# EAGLE library part ADXL345 (library aerial)
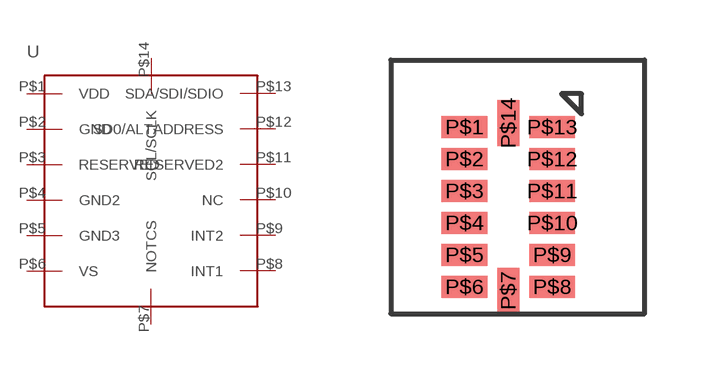
[diagram p1: symbol with the pads of QFN-ADXL345; footprint QFN-ADXL345]

Designator prefix U

## ADXL345  [QFN-ADXL345]
P$1  VDD
P$2  GND
P$3  RESERVED
P$4  GND2
P$5  GND3
P$6  VS
P$7  NOTCS
P$8  INT1
P$9  INT2
P$10  NC
P$11  RESERVED2
P$12  SD0/ALTADDRESS
P$13  SDA/SDI/SDIO
P$14  SCL/SCLK

## Footprint QFN-ADXL345 (pad centres in mm)
smd 1.145 x 0.55: P$1 0.573,4.67; P$2 0.573,3.87; P$3 0.573,3.07; P$4 0.573,2.27; P$5 0.573,1.47; P$6 0.573,0.67; P$8 2.768,0.67; P$9 2.768,1.47; P$10 2.768,2.27; P$11 2.768,3.07; P$12 2.768,3.87; P$13 2.768,4.67
smd 0.55 x 1.145: P$7 1.67,0.573; P$14 1.67,4.768